# Altium integrated library zilog.IntLib: 7 symbols
Pins are listed as number, name and electrical type; pins without a type are passive.

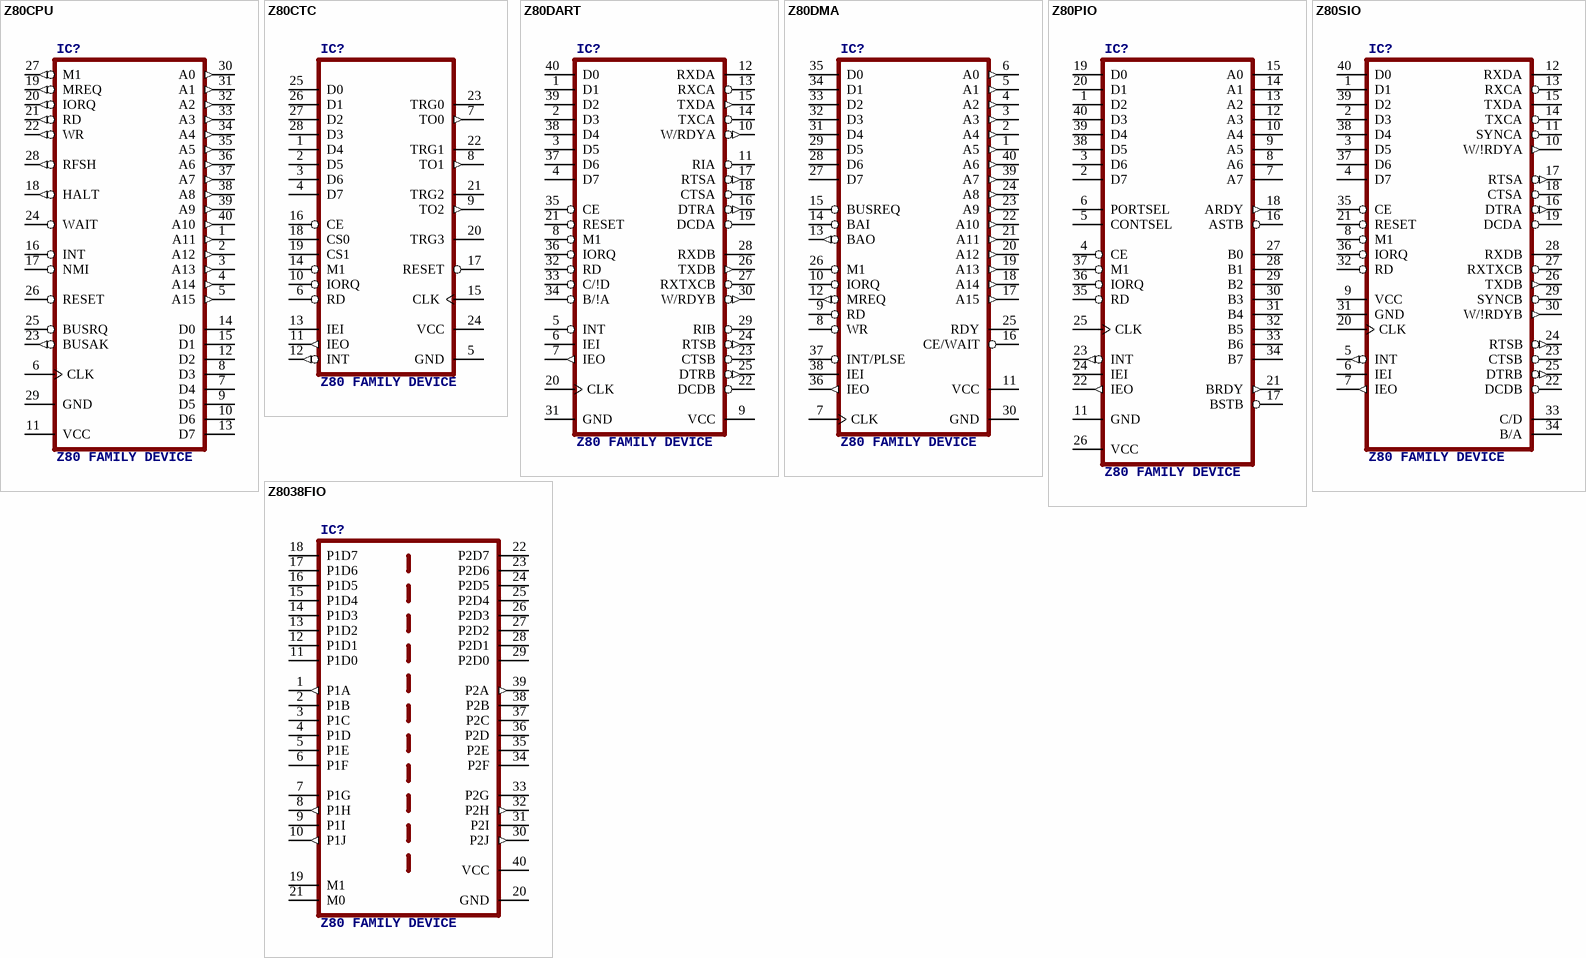
[diagram p0: symbols Z80CPU to Z8038FIO]

## Z80CPU
designator IC?, comment Z80 FAMILY DEVICE
footprint DIL40
pins: 1 A11 (out), 2 A12 (out), 3 A13 (out), 4 A14 (out), 5 A15 (out), 6 CLK, 7 D4, 8 D3, 9 D5, 10 D6, 11 VCC (power), 12 D2, 13 D7, 14 D0, 15 D1, 16 INT, 17 NMI, 18 HALT (out), 19 MREQ (out), 20 IORQ (out), 21 RD (out), 22 WR (out), 23 BUSAK (out), 24 WAIT, 25 BUSRQ, 26 RESET, 27 M1 (out), 28 RFSH (out), 29 GND (power), 30 A0 (out), 31 A1 (out), 32 A2 (out), 33 A3 (out), 34 A4 (out), 35 A5 (out), 36 A6 (out), 37 A7 (out), 38 A8 (out), 39 A9 (out), 40 A10 (out)

## Z80CTC
designator IC?, comment Z80 FAMILY DEVICE
footprint DIL28
pins: 1 D4, 2 D5, 3 D6, 4 D7, 5 GND (power), 6 RD, 7 TO0 (out), 8 TO1 (out), 9 TO2 (out), 10 IORQ, 11 IEO (out), 12 INT (out), 13 IEI, 14 M1, 15 CLK, 16 CE, 17 RESET, 18 CS0, 19 CS1, 20 TRG3, 21 TRG2, 22 TRG1, 23 TRG0, 24 VCC (power), 25 D0, 26 D1, 27 D2, 28 D3

## Z80DART
designator IC?, comment Z80 FAMILY DEVICE
footprint DIL40
pins: 1 D1, 2 D3, 3 D5, 4 D7, 5 INT (oc), 6 IEI, 7 IEO (out), 8 M1, 9 VCC (power), 10 W/RDYA (out), 11 RIA, 12 RXDA, 13 RXCA, 14 TXCA, 15 TXDA (out), 16 DTRA (out), 17 RTSA (out), 18 CTSA, 19 DCDA, 20 CLK, 21 RESET, 22 DCDB, 23 CTSB, 24 RTSB (out), 25 DTRB (out), 26 TXDB (out), 27 RXTXCB, 28 RXDB, 29 RIB, 30 W/RDYB (out), 31 GND (power), 32 RD, 33 C/!D, 34 B/!A, 35 CE, 36 IORQ, 37 D6, 38 D4, 39 D2, 40 D0

## Z80DMA
designator IC?, comment Z80 FAMILY DEVICE
footprint DIL40
pins: 1 A5 (out), 2 A4 (out), 3 A3 (out), 4 A2 (out), 5 A1 (out), 6 A0 (out), 7 CLK, 8 WR, 9 RD, 10 IORQ, 11 VCC (power), 12 MREQ (out), 13 BAO (out), 14 BAI, 15 BUSREQ, 16 CE/WAIT, 17 A15 (out), 18 A14 (out), 19 A13 (out), 20 A12 (out), 21 A11 (out), 22 A10 (out), 23 A9 (out), 24 A8 (out), 25 RDY, 26 M1, 27 D7, 28 D6, 29 D5, 30 GND (power), 31 D4, 32 D3, 33 D2, 34 D1, 35 D0, 36 IEO (out), 37 INT/PLSE (oc), 38 IEI, 39 A7 (out), 40 A6 (out)

## Z80PIO
designator IC?, comment Z80 FAMILY DEVICE
footprint DIL40
pins: 1 D2, 2 D7, 3 D6, 4 CE, 5 CONTSEL, 6 PORTSEL, 7 A7, 8 A6, 9 A5, 10 A4, 11 GND (power), 12 A3, 13 A2, 14 A1, 15 A0, 16 ASTB, 17 BSTB, 18 ARDY (out), 19 D0, 20 D1, 21 BRDY (out), 22 IEO (out), 23 INT (out), 24 IEI, 25 CLK, 26 VCC (power), 27 B0, 28 B1, 29 B2, 30 B3, 31 B4, 32 B5, 33 B6, 34 B7, 35 RD, 36 IORQ, 37 M1, 38 D5, 39 D4, 40 D3

## Z80SIO
designator IC?, comment Z80 FAMILY DEVICE
footprint DIL40
pins: 1 D1, 2 D3, 3 D5, 4 D7, 5 INT (out), 6 IEI, 7 IEO (out), 8 M1, 9 VCC (power), 10 W/!RDYA (out), 11 SYNCA, 12 RXDA, 13 RXCA, 14 TXCA, 15 TXDA, 16 DTRA (out), 17 RTSA (out), 18 CTSA, 19 DCDA, 20 CLK, 21 RESET, 22 DCDB, 23 CTSB, 24 RTSB (out), 25 DTRB (out), 26 TXDB (out), 27 RXTXCB, 28 RXDB, 29 SYNCB, 30 W/!RDYB (out), 31 GND (power), 32 RD, 33 C/D, 34 B/A, 35 CE, 36 IORQ, 37 D6, 38 D4, 39 D2, 40 D0

## Z8038FIO
designator IC?, comment Z80 FAMILY DEVICE
footprint DIL40
pins: 1 P1A (out), 2 P1B, 3 P1C, 4 P1D, 5 P1E, 6 P1F, 7 P1G, 8 P1H (out), 9 P1I, 10 P1J (out), 11 P1D0, 12 P1D1, 13 P1D2, 14 P1D3, 15 P1D4, 16 P1D5, 17 P1D6, 18 P1D7, 19 M1, 20 GND (power), 21 M0, 22 P2D7, 23 P2D6, 24 P2D5, 25 P2D4, 26 P2D3, 27 P2D2, 28 P2D1, 29 P2D0, 30 P2J (out), 31 P2I, 32 P2H (out), 33 P2G, 34 P2F, 35 P2E, 36 P2D, 37 P2C, 38 P2B, 39 P2A (out), 40 VCC (power)